# EAGLE library part DS1307 (library XYKlib)
DS1307 RTC I2C real-time clock with battery backup in a SOIC08 package.
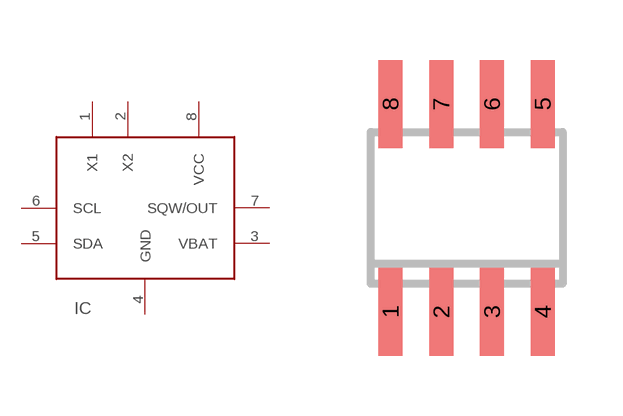
[diagram p2: symbol with the pads of SOIC08; footprint SOIC08]

Designator prefix IC

## DS1307  [SOIC08]
1  X1  pas
2  X2  pas
3  VBAT  pwr
4  GND  pwr
5  SDA
6  SCL
7  SQW/OUT
8  VCC  pwr

## Footprint SOIC08 (pad centres in mm)
SMALL OUTLINE INTEGRATED CIRCUIT
smd 0.6 x 2.2: 1 -1.905,-2.6; 2 -0.635,-2.6; 3 0.635,-2.6; 4 1.905,-2.6; 5 1.905,2.6; 6 0.635,2.6; 7 -0.635,2.6; 8 -1.905,2.6